# Altium schematic symbol library SL_Qrystals.SchLib: 2 symbols
Pins are listed as number, name and electrical type; pins without a type are passive.

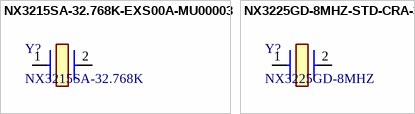
[diagram p0: symbols NX3215SA-32.768K-EXS00A-MU00003 to NX3225GD-8MHZ-STD-CRA-3]

## NX3215SA-32.768K-EXS00A-MU00003
designator Y?, comment NX3215SA-32.768K
Crystal or Oscillator, 32.768 KHz; Manufacturer_Name: NDK; Manufacturer_Part_Number: NX3215SA-32.768K-EXS00A-MU00003; Datasheet Link: https://media.digikey.com/pdf/Data%20Sheets/NDK%20PDFs/NX3215SA-32.768kHz-EXS00A-MU00003.pdf; Height: 0.9mm; Mouser Part Number: 344-NX3215SA32.768K3; Mouser Price/Stock: https://www.mouser.co.uk/ProductDetail/NDK/NX3215SA-32.768K-EXS00A-MU00003?qs=w%2Fv1CP2dgqrE9YNksyAN9A%3D%3D
footprint NX3215SA32768KEXS00AMU00003
pins: 1, 2

## NX3225GD-8MHZ-STD-CRA-3
designator Y?, comment NX3225GD-8MHZ
Crystal or Oscillator, 8 MHz; Manufacturer_Name: NDK; Manufacturer_Part_Number: NX3225GD-8MHZ-STD-CRA-3; Datasheet Link: https://th.mouser.com/datasheet/2/905/c_NX3225GD-STD-CRA-3_e-1317534.pdf; Height: 1mm; Mouser Part Number: 344-NX3225GD8MCRA3; Mouser Price/Stock: https://www.mouser.co.uk/ProductDetail/NDK/NX3225GD-8MHZ-STD-CRA-3?qs=55YtniHzbhDA0fw3anYH2g%3D%3D
footprint NX3225GD8MHZSTDCRA3
pins: 1, 2